# Altium footprint library ROV2019V2.0 .PcbLib: 22 footprints (part 2 of 2)
Each footprint in its own frame and in the unit in brackets; x right, y up, seen from the top. Pads: shape width x height; smd on the part's side, far side on the other; paste and mask are expansions set on the pad; w line width, h text height; cw(c..) or ccw(c..) is an arc to the next point about the centre after c.
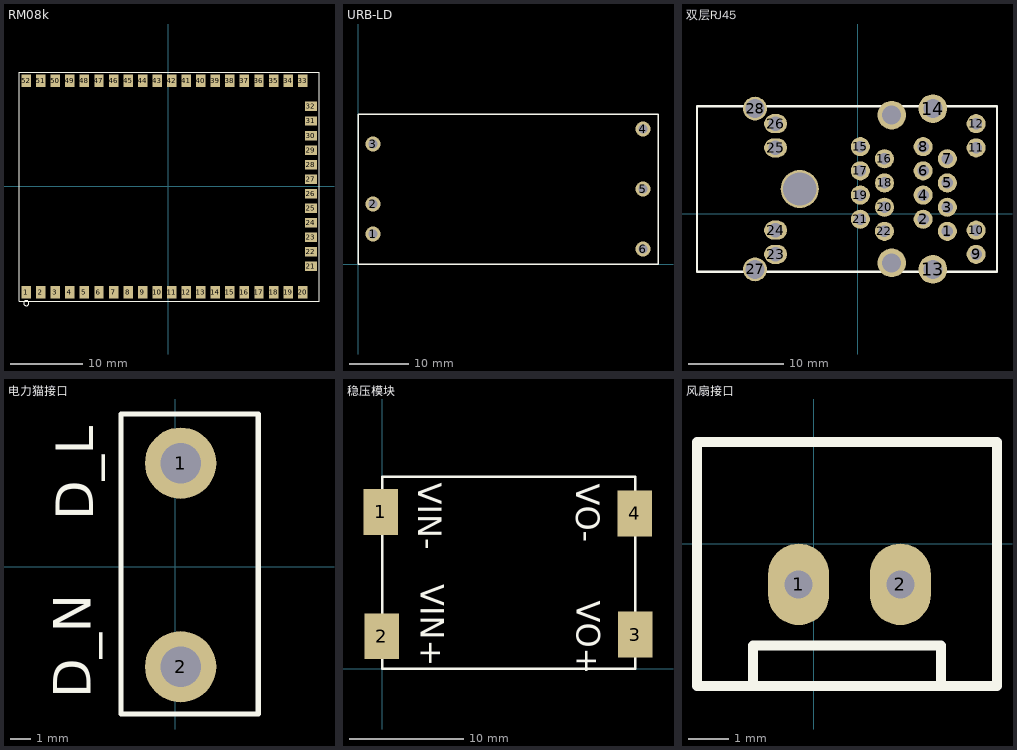
[diagram p1: the footprints below, top view; thin cyan lines are the x and y axes]

## RM08k [mm]
pads (52):
  rect 1.3x1.7 smd: 1(-19.513,-14.555) 2(-17.513,-14.555) 3(-15.513,-14.555) 4(-13.513,-14.555) 5(-11.513,-14.555) 6(-9.513,-14.555) 7(-7.513,-14.555) 8(-5.513,-14.555) 9(-3.513,-14.555) 10(-1.513,-14.555) 11(0.487,-14.555) 12(2.487,-14.555) 13(4.487,-14.555) 14(6.487,-14.555) 15(8.487,-14.555) 16(10.487,-14.555) 17(12.487,-14.555) 18(14.487,-14.555) 19(16.487,-14.555) 20(18.487,-14.555) 33(18.487,14.545) 34(16.487,14.545) 35(14.487,14.545) 36(12.487,14.545) 37(10.487,14.545) 38(8.487,14.545) 39(6.487,14.545) 40(4.487,14.545) 41(2.487,14.545) 42(0.487,14.545) 43(-1.513,14.545) 44(-3.513,14.545) 45(-5.513,14.545) 46(-7.513,14.545) 47(-9.513,14.545) 48(-11.513,14.545) 49(-13.513,14.545) 50(-15.513,14.545) 51(-17.513,14.545) 52(-19.513,14.545)
  rect 1.7x1.3 smd: 21(19.637,-11.005) 22(19.637,-9.005) 23(19.637,-7.005) 24(19.637,-5.005) 25(19.637,-3.005) 26(19.637,-1.005) 27(19.637,0.995) 28(19.637,2.995) 29(19.637,4.995) 30(19.637,6.995) 31(19.637,8.995) 32(19.637,10.995)
Top Overlay:
  circle w0.15: c-19.513,-16.055 r0.354
  lines w0.1: -20.513,-15.805 20.737,-15.805 20.737,15.695 -20.513,15.695 -20.513,-15.805

## URB-LD [mm]
pads (6):
  round 2.54 hole 1.5: 1(2.54,5.08) 2(2.54,10.16) 3(2.54,20.32) 4(48.26,22.86) 5(48.26,12.7) 6(48.26,2.54)
Top Overlay:
  lines w0.254: 0,25.375 0,0 50.8,0 50.8,25.4 0.025,25.4 0.025,25.35

## 双层RJ45 [mm]
pads (31):
  round 2 hole 1.2: 1(9.389,-1.832) 2(6.849,-0.562) 3(9.389,0.695) 4(6.849,1.978) 5(9.389,3.248) 6(6.849,4.518) 7(9.389,5.788) 8(6.849,7.058) 9(12.409,-4.247) 10(12.409,-1.707) 11(12.409,6.933) 12(12.409,9.473) 15(0.254,7.058) 16(2.789,5.788) 17(0.254,4.518) 18(2.794,3.248) 19(0.254,1.978) 20(2.794,0.695) 21(0.254,-0.562) 22(2.789,-1.832)
  round 3 hole 2: 13(7.874,-5.827) 14(7.874,11.053) ""(3.549,-5.147) ""(3.549,10.373)
  oval 2.4x2 hole 1.5: 23(-8.641,-4.247) 24(-8.641,-1.707) 25(-8.641,6.933) 26(-8.641,9.473)
  round 2.5 hole 2: 27(-10.801,-5.827) 28(-10.801,11.053)
  round 4 hole 3.5: ""(-6.101,2.613)
Top Overlay:
  lines w0.254: -16.891,11.284 -16.891,-6.096 14.589,-6.096 ; -16.891,11.303 14.589,11.303 ; 14.605,-6.096 14.605,11.284

## 电力猫接口 [mm]
pads (2):
  round 3.5 hole 2: 1(0.254,5.08) 2(0.254,-4.92)
Top Overlay:
  lines w0.254: -2.667,-7.239 4.064,-7.239 4.064,7.493 -2.667,7.493 -2.667,-7.239
  text "D_L" at -3.429,2.286 h3.17
  text "D_N" at -3.556,-6.477 h3.17

## 稳压模块 [mm]
pads (4):
  rect 3x4 smd: 1(-0.127,13.691) 2(-0.051,2.819) 3(22.098,2.972) 4(22.073,13.564)
Top Overlay:
  lines w0.203: 0,0 0,16.764 22.098,16.764 22.098,0 0,0
  text "VIN+" at 3.378,7.391 h2.03
  text "VIN-" at 3.15,16.256 h2.03
  text "VO-" at 16.967,16.154 h2.03
  text "VO+" at 16.993,5.918 h2.03

## 风扇接口 [mil]
pads (2):
  oval 60x80 hole 27.56: 1(-15,-40) 2(85,-40)
Top Overlay:
  lines w10: -60,-140 -60,-100 125,-100 125,-140 ; -115,-140 -115,-20 -115,100 180,100 180,-140 -115,-140